# EAGLE library part K4S561632J (library mylib)
256Mb Synchronous DRAM
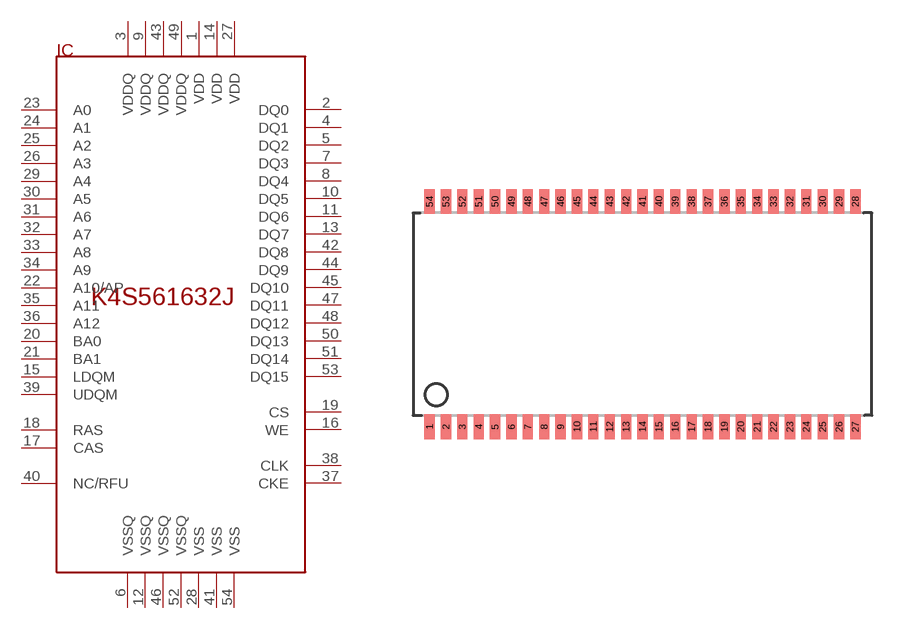
[diagram p1: symbol with the pads of TSOP54; footprint TSOP54]

Designator prefix IC

## K4S561632J  [TSOP54]
1  VDD  pwr
2  DQ0
3  VDDQ  pwr
4  DQ1
5  DQ2
6  VSSQ  pwr
7  DQ3
8  DQ4
9  VDDQ  pwr
10  DQ5
11  DQ6
12  VSSQ  pwr
13  DQ7
14  VDD  pwr
15  LDQM
16  WE
17  CAS
18  RAS
19  CS
20  BA0
21  BA1
22  A10/AP
23  A0
24  A1
25  A2
26  A3
27  VDD  pwr
28  VSS  pwr
29  A4
30  A5
31  A6
32  A7
33  A8
34  A9
35  A11
36  A12
37  CKE
38  CLK
39  UDQM
40  NC/RFU  nc
41  VSS  pwr
42  DQ8
43  VDDQ  pwr
44  DQ9
45  DQ10
46  VSSQ  pwr
47  DQ11
48  DQ12
49  VDDQ  pwr
50  DQ13
51  DQ14
52  VSSQ  pwr
53  DQ15
54  VSS  pwr

## Footprint TSOP54 (pad centres in mm)
smd 0.5 x 1.2: 1 1.03,-0.422; 2 1.83,-0.422; 3 2.63,-0.422; 4 3.43,-0.422; 5 4.23,-0.422; 6 5.03,-0.422; 7 5.83,-0.422; 8 6.63,-0.422; 9 7.43,-0.422; 10 8.23,-0.422; 11 9.03,-0.422; 12 9.83,-0.422; 13 10.63,-0.422; 14 11.43,-0.422; 15 12.23,-0.422; 16 13.03,-0.422; 17 13.83,-0.422; 18 14.63,-0.422; 19 15.43,-0.422; 20 16.23,-0.422; 21 17.03,-0.422; 22 17.83,-0.422; 23 18.63,-0.422; 24 19.43,-0.422; 25 20.23,-0.422; 26 21.03,-0.422; 27 21.83,-0.422; 28 21.83,10.582; 29 21.03,10.582; 30 20.23,10.582; 31 19.43,10.582; 32 18.63,10.582; 33 17.83,10.582; 34 17.03,10.582; 35 16.23,10.582; 36 15.43,10.582; 37 14.63,10.582; 38 13.83,10.582; 39 13.03,10.582; 40 12.23,10.582; 41 11.43,10.582; 42 10.63,10.582; 43 9.83,10.582; 44 9.03,10.582; 45 8.23,10.582; 46 7.43,10.582; 47 6.63,10.582; 48 5.83,10.582; 49 5.03,10.582; 50 4.23,10.582; 51 3.43,10.582; 52 2.63,10.582; 53 1.83,10.582; 54 1.03,10.582